# EAGLE library part 685119136923 (library MicroUSB)
WR-COM SMT Horizontal Mini HDMI, 19 pins
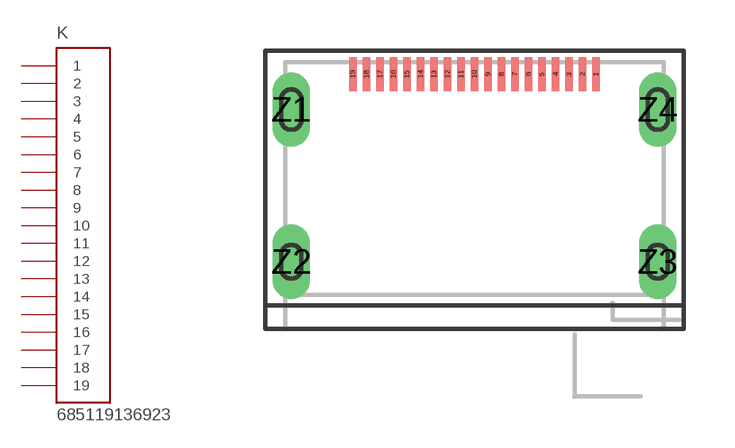
[diagram p12: symbol with the pads of 685119136923; footprint 685119136923]

Designator prefix K

## 685119136923  [685119136923]
1  1  pas
2  2  pas
3  3  pas
4  4  pas
5  5  pas
6  6  pas
7  7  pas
8  8  pas
9  9  pas
10  10  pas
11  11  pas
12  12  pas
13  13  pas
14  14  pas
15  15  pas
16  16  pas
17  17  pas
18  18  pas
19  19  pas

## Footprint 685119136923 (pad centres in mm)
WR-COM SMT Horizontal Mini HDMI, 19 pins
smd 0.23 x 1: 1 3.6,0; 2 3.2,0; 3 2.8,0; 4 2.4,0; 5 2,0; 6 1.6,0; 7 1.2,0; 8 0.8,0; 9 0.4,0; 10 0,0; 11 -0.4,0; 12 -0.8,0; 13 -1.2,0; 14 -1.6,0; 15 -2,0; 16 -2.4,0; 17 -2.8,0; 18 -3.2,0; 19 -3.6,0
drill 0.6 long: Z1 -5.425,-1.05; Z2 -5.425,-5.56; Z3 5.425,-5.56; Z4 5.425,-1.05